# EAGLE library part PCF8575DB (library PCF8575DB)
None Check prices <https://pricing.snapeda.com/parts/PCF8575DB/Texas%20Instruments/view-part?ref=eda>
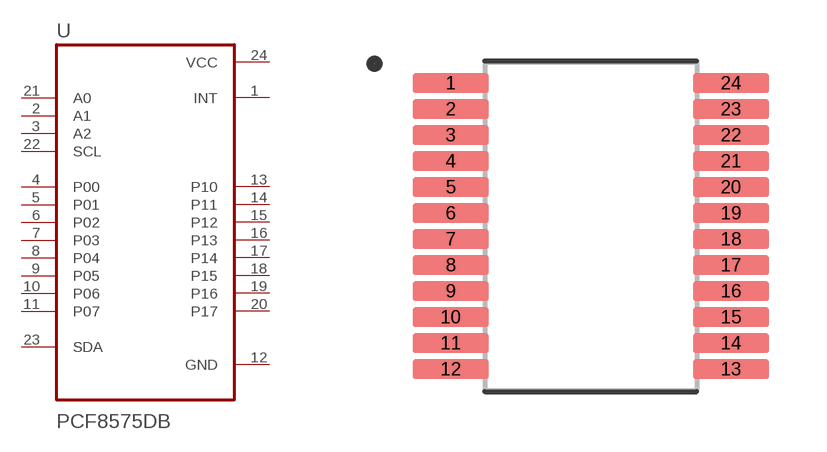
[diagram p0: symbol with the pads of SOP65P780X200-24N; footprint SOP65P780X200-24N]

Designator prefix U

## PCF8575DB (Availability: In Stock; Description: Remote 16-Bit I2C and SMBus I/O Expander with Interrupt Output 24-SSOP -40 to 85; MF: Texas Instruments; MP: PCF8575DB; Package: SSOP-24 Texas Instruments; Price: None; Purchase-URL: https://pricing.snapeda.com/search/part/PCF8575DB/?ref=eda)  [SOP65P780X200-24N]
1  INT  out
2  A1  in
3  A2  in
4  P00
5  P01
6  P02
7  P03
8  P04
9  P05
10  P06
11  P07
12  GND  pwr
13  P10
14  P11
15  P12
16  P13
17  P14
18  P15
19  P16
20  P17
21  A0  in
22  SCL  in
23  SDA
24  VCC  pwr

## Footprint SOP65P780X200-24N (pad centres in mm)
smd 1.9 x 0.48: 1 -3.505,3.575; 2 -3.505,2.925; 3 -3.505,2.275; 4 -3.505,1.625; 5 -3.505,0.975; 6 -3.505,0.325; 7 -3.505,-0.325; 8 -3.505,-0.975; 9 -3.505,-1.625; 10 -3.505,-2.275; 11 -3.505,-2.925; 12 -3.505,-3.575; 13 3.505,-3.575; 14 3.505,-2.925; 15 3.505,-2.275; 16 3.505,-1.625; 17 3.505,-0.975; 18 3.505,-0.325; 19 3.505,0.325; 20 3.505,0.975; 21 3.505,1.625; 22 3.505,2.275; 23 3.505,2.925; 24 3.505,3.575